# EAGLE library part I2C_EEPROM_24AA32A (library jonsowman)
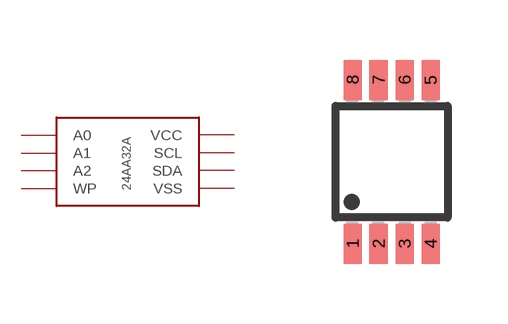
[diagram p5: symbol with the pads of MSOP8; footprint MSOP8]

Designator prefix -

## I2C_EEPROM_24AA32A  [MSOP8]
1  A0
2  A1
3  A2
4  VSS
5  SDA
6  SCL
7  WP
8  VCC

## Footprint MSOP8 (pad centres in mm)
Micro Small Outline Package Grid .65mm
smd 0.45 x 1: 1 -0.975,-2.05; 2 -0.325,-2.05; 3 0.325,-2.05; 4 0.975,-2.05; 5 0.975,2.05; 6 0.325,2.05; 7 -0.325,2.05; 8 -0.975,2.05